# EAGLE library part 74AC11074 (library 74ac-logic)
Dual positive edge triggered D-type FLIP FLOP
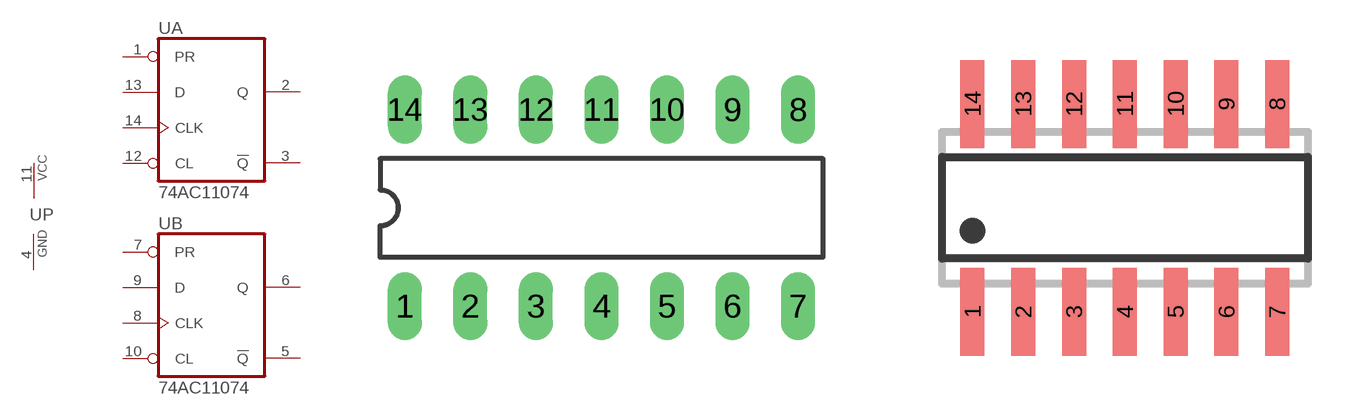
[diagram p12: symbol with the pads of DIL14; footprints DIL14, SO14]

Designator prefix U; gates A=7411074 B=7411074 P=PWRN

## 74AC11074  [DIL14]
1  A:PR  in
2  A:Q  out
3  A:!Q!  out
4  P:GND  pwr
5  B:!Q!  out
6  B:Q  out
7  B:PR  in
8  B:CLK  in
9  B:D  in
10  B:CL  in
11  P:VCC  pwr
12  A:CL  in
13  A:D  in
14  A:CLK  in

## 74AC11074D  [SO14]
Pads as for DIL14

## Footprint DIL14 (pad centres in mm)
Dual In Line Package
drill 0.813 long: 1 -7.62,-3.81; 2 -5.08,-3.81; 3 -2.54,-3.81; 4 0,-3.81; 5 2.54,-3.81; 6 5.08,-3.81; 7 7.62,-3.81; 8 7.62,3.81; 9 5.08,3.81; 10 2.54,3.81; 11 0,3.81; 12 -2.54,3.81; 13 -5.08,3.81; 14 -7.62,3.81

## Footprint SO14 (pad centres in mm)
SMALL OUTLINE INTEGRATED CIRCUIT body 3.9 mm/JEDEC MS-012AC
smd 0.6 x 2.2: 1 -3.81,-2.6; 2 -2.54,-2.6; 3 -1.27,-2.6; 4 0,-2.6; 5 1.27,-2.6; 6 2.54,-2.6; 7 3.81,-2.6; 8 3.81,2.6; 9 2.54,2.6; 10 1.27,2.6; 11 0,2.6; 12 -1.27,2.6; 13 -2.54,2.6; 14 -3.81,2.6